# EAGLE library part PIC12F683 (library microchip)
8-Pin Flash-Based, 8-Bit CMOS Microcontrollers with nanoWatt Technology Source: http://ww1.microchip.com/downloads/en/DeviceDoc/41211D_.pdf
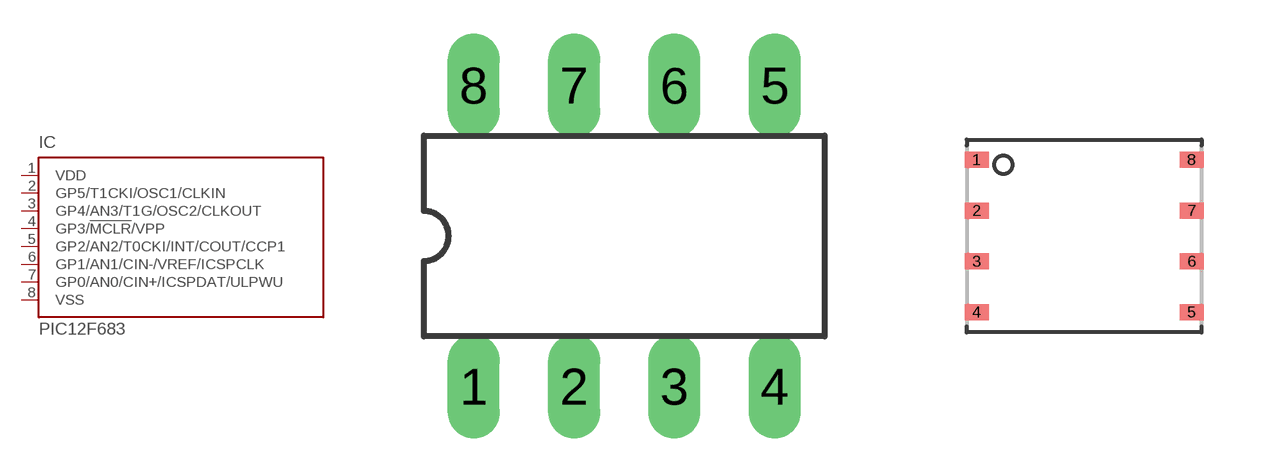
[diagram p116: symbol with the pads of DIL8; footprints DIL8, DFN-S]

Designator prefix IC

## PIC12F683P (MF: MICROCHIP; MPN: PIC12F683-I/P; OC_FARNELL: 9759034; OC_NEWARK: 89H0442)  [DIL8]
1  VDD  pwr
2  GP5/T1CKI/OSC1/CLKIN
3  GP4/AN3/T1G/OSC2/CLKOUT
4  GP3/!MCLR!/VPP
5  GP2/AN2/T0CKI/INT/COUT/CCP1
6  GP1/AN1/CIN-/VREF/ICSPCLK
7  GP0/AN0/CIN+/ICSPDAT/ULPWU
8  VSS  pwr

## PIC12F683DS (MF: MICROCHIP; MPN: PIC12F683-I/MF; OC_FARNELL: 1137331; OC_NEWARK: 89H0441)  [DFN-S]
Pads as for DIL8

## PIC12F683SN (MF: MICROCHIP; MPN: PIC12F683-I/SN; OC_FARNELL: 9759042; OC_NEWARK: 61K3434)  [SO-08]
Pads as for DIL8

## PIC12F683MD (MF: MICROCHIP; MPN: PIC12F683-I/MD; OC_FARNELL: 4057368; OC_NEWARK: 56K7230)  [DFN8-4X4]
Pads as for DIL8

## Footprint DIL8 (pad centres in mm)
Dual In Line package type P
drill 0.813 long: 1 -3.81,-3.81; 2 -1.27,-3.81; 3 1.27,-3.81; 4 3.81,-3.81; 5 3.81,3.81; 6 1.27,3.81; 7 -1.27,3.81; 8 -3.81,3.81

## Footprint DFN-S (pad centres in mm)
8-Lead Plastic Dual Flat No Lead Package (MF) 6x5 mm Body (DFN-S) Source: http://www.microchip.com .. 41190c.pdf
smd 0.6 x 0.4: 1 -2.69,1.905; 2 -2.69,0.635; 3 -2.69,-0.635; 4 -2.69,-1.905; 5 2.69,-1.905; 6 2.69,-0.635; 7 2.69,0.635; 8 2.69,1.905

## Footprint SO-08 (pad centres in mm)
Small Outline Narrow Plastic Gull Wing 150-mil body, package type SN
smd 0.6 x 2.2: 1 -1.905,-2.6; 2 -0.635,-2.6; 3 0.635,-2.6; 4 1.905,-2.6; 5 1.905,2.6; 6 0.635,2.6; 7 -0.635,2.6; 8 -1.905,2.6

## Footprint DFN8-4X4 (pad centres in mm)
8-Lead Plastic Dual Flat, No Lead Package (MD) 4x4x0.9 mm Body [DFN] Source: http://ww1.microchip.com/downloads/en/DeviceDoc/41211D_.pdf
smd 0.8 x 0.4: 1 -1.65,1.2; 2 -1.65,0.4; 3 -1.65,-0.4; 4 -1.65,-1.2; 5 1.65,-1.2; 6 1.65,-0.4; 7 1.65,0.4; 8 1.65,1.2
smd 2.2 x 3: EXP 0,0